# EAGLE library part 5-1415539-2 (library Relays)
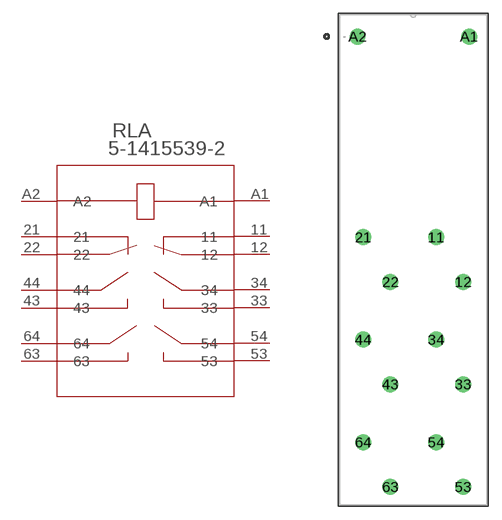
[diagram p69: symbol with the pads of RELAY14_SR6V; footprint RELAY14_SR6V]

Designator prefix RLA

## 5-1415539-2 (BUILT_BY: EMA_UL_Team; CATEGORY: Power Relays; CONTACT_ARRANGEMENT: 4 Form A (NO) + 2 Form B (NC); COPYRIGHT: Copyright (C) 2016 Accelerated Designs. All rights reserved; DESCRIPTION: SR6V6K24; MANUFACTURER_PART_NUMBER: 5-1415539-2; MAXIMUM_SWITCHING_CURRENT: -; MAXIMUM_SWITCHING_VOLTAGE: -; PART_STATUS: active; PRODUCT_TYPE: -; RELAY_TYPE: -; SERIES: SCHRACK Force Guided Relay SR6 A/B/C/V; TE_PART_NUMBER: 5-1415539-2; VENDOR: TE Connectivity)  [RELAY14_SR6V]
11  11  pas
12  12  pas
21  21  pas
22  22  pas
33  33  pas
34  34  pas
43  43  pas
44  44  pas
53  53  pas
54  54  pas
63  63  pas
64  64  pas
A1  A1  pas
A2  A2  pas

## Footprint RELAY14_SR6V (pad centres in mm)
drill 1.194 pad 1.702: 11 -3.683,27.584; 12 -0.66,22.581; 21 -11.862,27.584; 22 -8.814,22.581; 33 -0.66,11.1; 34 -3.683,16.104; 43 -8.814,11.1; 44 -11.862,16.104; 53 -0.66,-0.406; 54 -3.683,4.597; 63 -8.814,-0.406; 64 -11.862,4.597; A1 0,50.089; A2 -12.497,50.089